# EAGLE library part TS3DV642 (library pimoroni-ics)
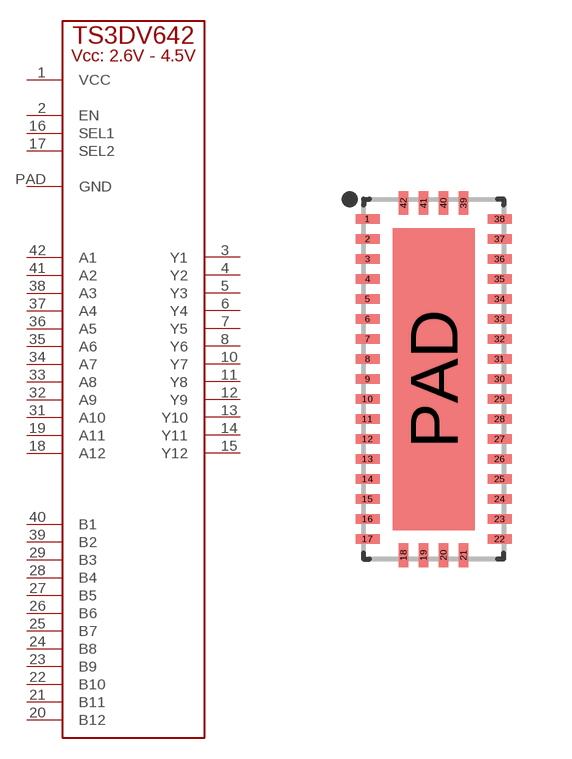
[diagram p172: symbol with the pads of QFN-42-9X3.5MM; footprint QFN-42-9X3.5MM]

Designator prefix U

## TS3DV642  [QFN-42-9X3.5MM]
1  VCC
2  EN
3  Y1
4  Y2
5  Y3
6  Y4
7  Y5
8  Y6
10  Y7
11  Y8
12  Y9
13  Y10
14  Y11
15  Y12
16  SEL1
17  SEL2
18  A12
19  A11
20  B12
21  B11
22  B10
23  B9
24  B8
25  B7
26  B6
27  B5
28  B4
29  B3
31  A10
32  A9
33  A8
34  A7
35  A6
36  A5
37  A4
38  A3
39  B2
40  B1
41  A2
42  A1
PAD  GND

## Footprint QFN-42-9X3.5MM (pad centres in mm)
smd 0.6 x 0.24: 1 -1.65,4; 2 -1.65,3.5; 3 -1.65,3; 4 -1.65,2.5; 5 -1.65,2; 6 -1.65,1.5; 7 -1.65,1; 8 -1.65,0.5; 9 -1.65,0; 10 -1.65,-0.5; 11 -1.65,-1; 12 -1.65,-1.5; 13 -1.65,-2; 14 -1.65,-2.5; 15 -1.65,-3; 16 -1.65,-3.5; 17 -1.65,-4; 22 1.65,-4; 23 1.65,-3.5; 24 1.65,-3; 25 1.65,-2.5; 26 1.65,-2; 27 1.65,-1.5; 28 1.65,-1; 29 1.65,-0.5; 30 1.65,0; 31 1.65,0.5; 32 1.65,1; 33 1.65,1.5; 34 1.65,2; 35 1.65,2.5; 36 1.65,3; 37 1.65,3.5; 38 1.65,4
smd 0.24 x 0.6: 18 -0.75,-4.4; 19 -0.25,-4.4; 20 0.25,-4.4; 21 0.75,-4.4; 39 0.75,4.4; 40 0.25,4.4; 41 -0.25,4.4; 42 -0.75,4.4
smd 2.05 x 7.55: PAD 0,0